# EAGLE library part NJM2360 (library user)
電源IC PWM型 秋月電子通商 I-12365
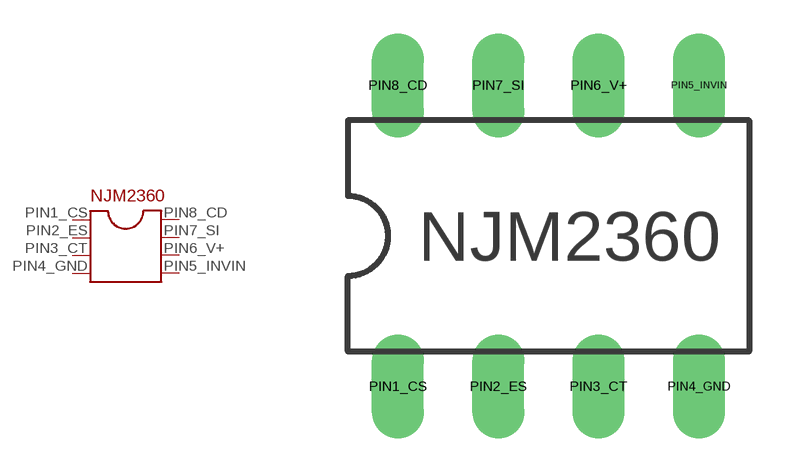
[diagram p1: symbol with the pads of NJM2360; footprint NJM2360]

Designator prefix -

## NJM2360  [NJM2360]
PIN1_CS  PIN1_CS  pas
PIN2_ES  PIN2_ES  pas
PIN3_CT  PIN3_CT  pas
PIN4_GND  PIN4_GND  pas
PIN5_INVIN  PIN5_INVIN  pas
PIN6_V+  PIN6_V+  pas
PIN7_SI  PIN7_SI  pas
PIN8_CD  PIN8_CD  pas

## Footprint NJM2360 (pad centres in mm)
Dual In Line Package
drill 0.813 long: PIN1_CS -3.81,-3.81; PIN2_ES -1.27,-3.81; PIN3_CT 1.27,-3.81; PIN4_GND 3.81,-3.81; PIN5_INVIN 3.81,3.81; PIN6_V+ 1.27,3.81; PIN7_SI -1.27,3.81; PIN8_CD -3.81,3.81